# EAGLE library part MM74HC251M (library Fairchild_By_element14_Batch_1)
8-Channel 3-STATE Multiplexer
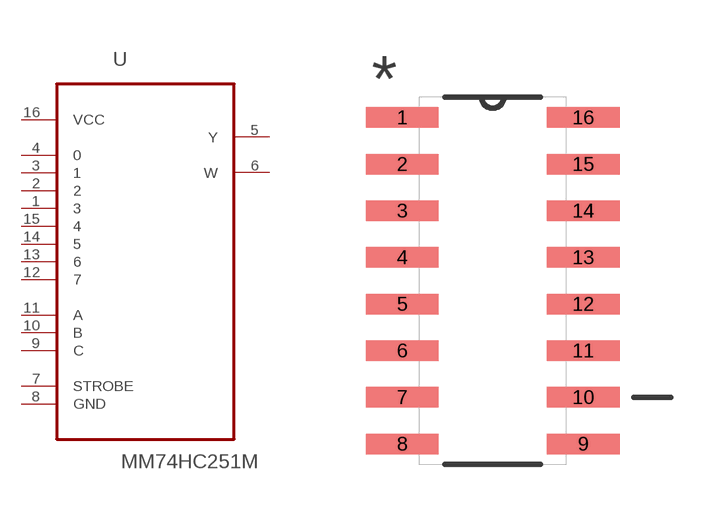
[diagram p267: symbol with the pads of SOIC127P600X175-16N; footprint SOIC127P600X175-16N]

Designator prefix U

## MM74HC251M (MPN: MM74HC251M; OC_FARNELL: 1013856; OC_NEWARK: -; PACKAGE: SOIC-16; SUPPLIER: Fairchild Semiconductor)  [SOIC127P600X175-16N]
1  3  in
2  2  in
3  1  in
4  0  in
5  Y  out
6  W  out
7  STROBE  in
8  GND  pas
9  C  in
10  B  in
11  A  in
12  7  in
13  6  in
14  5  in
15  4  in
16  VCC  pwr

## Footprint SOIC127P600X175-16N (pad centres in mm)
smd 1.981 x 0.559: 1 -2.464,4.445; 2 -2.464,3.175; 3 -2.464,1.905; 4 -2.464,0.635; 5 -2.464,-0.635; 6 -2.464,-1.905; 7 -2.464,-3.175; 8 -2.464,-4.445; 9 2.464,-4.445; 10 2.464,-3.175; 11 2.464,-1.905; 12 2.464,-0.635; 13 2.464,0.635; 14 2.464,1.905; 15 2.464,3.175; 16 2.464,4.445